# Altium footprint library UpDuino Camera Adaptor_V2.01.PcbLib: 21 footprints (part 2 of 2)
Each footprint in its own frame and in the unit in brackets; x right, y up, seen from the top. Pads: shape width x height; smd on the part's side, far side on the other; paste and mask are expansions set on the pad; w line width, h text height; cw(c..) or ccw(c..) is an arc to the next point about the centre after c.
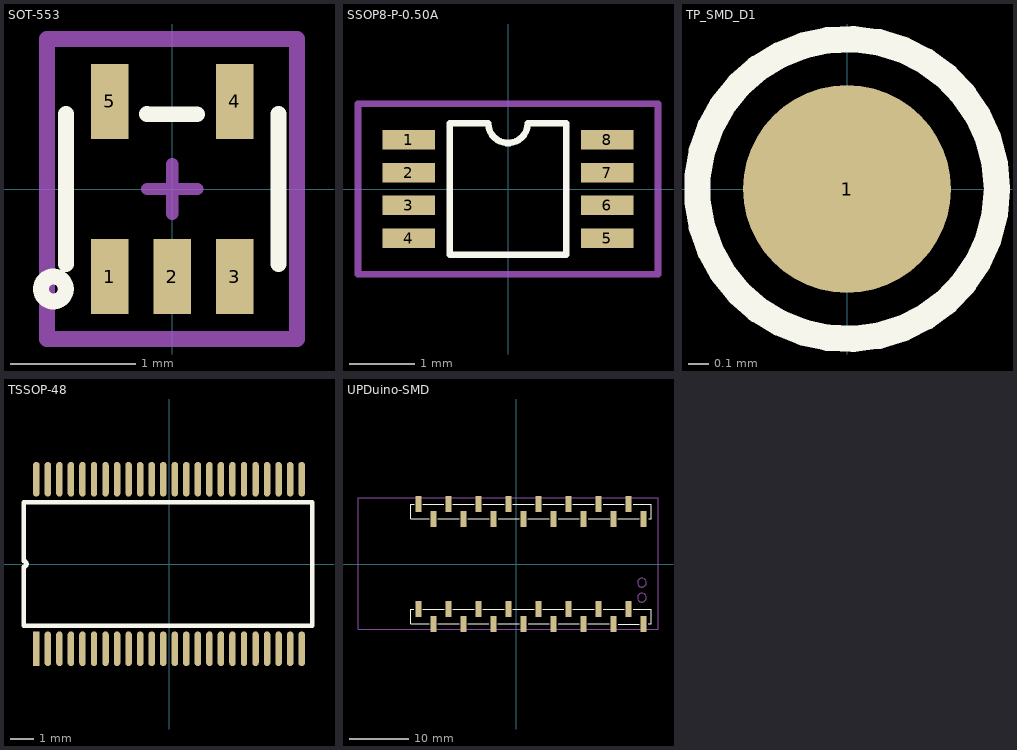
[diagram p1: the footprints below, top view; thin cyan lines are the x and y axes]

## SOT-553 [mm]
height 0.33
pads (5):
  rect 0.3x0.6 smd: 1(-0.5,-0.7) 2(0,-0.7) 3(0.5,-0.7) 4(0.5,0.7) 5(-0.5,0.7)
Top Overlay:
  circle w0.127: c-0.95,-0.8 r0.1
  lines w0.127: -0.85,-0.6 -0.85,0.6 ; -0.2,0.6 0.2,0.598 ; 0.85,-0.6 0.85,0.6
Mechanical 3:
  lines w0.1: -0.2,0 0.2,0 ; 0,-0.2 0,0.2
Mechanical 5:
  lines w0.127: -1,-1.2 1,-1.2 1,1.2 -1,1.2 -1,-1.2

## SSOP8-P-0.50A [mm]
height 2.2
pads (8):
  rect 0.8x0.3 smd: 1(-1.51,0.75) 2(-1.51,0.25) 3(-1.51,-0.25) 4(-1.51,-0.75) 5(1.51,-0.75) 6(1.51,-0.25) 7(1.51,0.25) 8(1.51,0.75)
Top Overlay:
  lines w0.1: -0.889,-1 -0.889,1 -0.3,1 ccw(c0,1) 0.3,1 0.889,1 0.889,-1 -0.889,-1
Mechanical 16:
  lines w0.1: -2.286,-1.3 2.286,-1.3 2.286,1.3 -2.286,1.3 -2.286,-1.3
  text ".Designator" at -1.01,-0.415 h0.8
3D body "User Library-VSSOP8-3.STEP": height 0.9, standoff 0, extent -1.55,-1 1.55,1

## TP_SMD_D1 [mm] "Test Point_D1MM"
pads (1):
  round 1 smd: 1(0,0)
Top Overlay:
  circle w0.127: c0,0 r0.721

## TSSOP-48 [mm]
height 0.33
pads (48):
  rect 0.28x1.5 smd: 1(-5.75,-3.675)
  oval 0.28x1.5 smd: 2(-5.25,-3.675) 3(-4.75,-3.675) 4(-4.25,-3.675) 5(-3.75,-3.675) 6(-3.25,-3.675) 7(-2.75,-3.675) 8(-2.25,-3.675) 9(-1.75,-3.675) 10(-1.25,-3.675) 11(-0.75,-3.675) 12(-0.25,-3.675) 13(0.25,-3.675) 14(0.75,-3.675) 15(1.25,-3.675) 16(1.75,-3.675) 17(2.25,-3.675) 18(2.75,-3.675) 19(3.25,-3.675) 20(3.75,-3.675) 21(4.25,-3.675) 22(4.75,-3.675) 23(5.25,-3.675) 24(5.75,-3.675) 25(5.75,3.675) 26(5.25,3.675) 27(4.75,3.675) 28(4.25,3.675) 29(3.75,3.675) 30(3.25,3.675) 31(2.75,3.675) 32(2.25,3.675) 33(1.75,3.675) 34(1.25,3.675) 35(0.75,3.675) 36(0.25,3.675) 37(-0.25,3.675) 38(-0.75,3.675) 39(-1.25,3.675) 40(-1.75,3.675) 41(-2.25,3.675) 42(-2.75,3.675) 43(-3.25,3.675) 44(-3.75,3.675) 45(-4.25,3.675) 46(-4.75,3.675) 47(-5.25,3.675) 48(-5.75,3.675)
Top Overlay:
  lines w0.2: -6.3,-2.675 -6.3,-0.125 ccw(c-6.3,0) -6.3,0.125 -6.3,2.675 6.2,2.675 6.2,-2.675 -6.3,-2.675
3D body "TSSOP-48.step": height 1.1, standoff 0, extent -6.25,-4.05 6.25,4.05

## UPDuino-SMD [mm]
pads (32):
  rect 1.02x2.7 smd: 1(-16.51,10.14) 2(-13.97,7.64) 3(-11.43,10.14) 4(-8.89,7.64) 5(-6.35,10.14) 6(-3.81,7.64) 7(-1.27,10.14) 8(1.27,7.64) 9(3.81,10.14) 10(6.35,7.64) 11(8.89,10.14) 12(11.43,7.64) 13(13.97,10.14) 14(16.51,7.64) 15(19.05,10.14) 16(21.59,7.64) 17(21.59,-10.14) 18(19.05,-7.64) 19(16.51,-10.14) 20(13.97,-7.64) 21(11.43,-10.14) 22(8.89,-7.64) 23(6.35,-10.14) 24(3.81,-7.64) 25(1.27,-10.14) 26(-1.27,-7.64) 27(-3.81,-10.14) 28(-6.35,-7.64) 29(-8.89,-10.14) 30(-11.43,-7.64) 31(-13.97,-10.14) 32(-16.51,-7.64)
Top Overlay:
  lines w0.127: -17.27,-7.64 -17.78,-7.64 -17.78,-10.14 -14.67,-10.14 ; -17.24,10.14 -17.78,10.14 -17.78,7.64 -14.69,7.64 ; -15.79,10.14 -12.19,10.14 ; -15.77,-7.64 -12.17,-7.64 ; -13.22,-10.14 -9.62,-10.14 ; -13.19,7.64 -9.59,7.64 ; -10.69,10.14 -7.09,10.14 ; -10.67,-7.64 -7.07,-7.64 ; -8.14,7.64 -4.54,7.64 ; -8.12,-10.14 -4.57,-10.14 ; -5.62,-7.64 -2.02,-7.64 ; -5.59,10.14 -1.99,10.14 ; -3.07,-10.14 0.53,-10.14 ; -3.04,7.64 0.51,7.64 ; -0.54,10.14 3.06,10.14 ; -0.52,-7.64 3.08,-7.64 ; 2.01,7.64 5.61,7.64 ; 2.03,-10.14 5.63,-10.14 ; 4.505,-7.64 8.105,-7.64 ; 4.56,10.14 8.16,10.14 ; 7.11,7.64 10.71,7.64 ; 7.13,-10.14 10.73,-10.14 ; 9.585,10.14 13.185,10.14 ; 9.63,-7.64 13.23,-7.64 ; 12.13,-10.14 15.73,-10.14 ; 12.21,7.64 15.81,7.64 ; 14.71,10.14 18.31,10.14 ; 14.732,-7.62 18.332,-7.62 ; 17.21,7.64 20.81,7.64 ; 17.272,-10.16 20.872,-10.16 ; 19.812,-7.64 22.86,-7.64 22.86,-10.14 22.352,-10.14 ; 19.835,10.14 22.86,10.14 22.86,7.64 22.46,7.64
Mechanical 5:
  lines w0.127: -26.71,-11.06 -26.71,11.159 24.003,11.159 24.003,-11.06 -26.71,-11.06
Mechanical 13:
  circle w0.127: c21.29,-3.15 r0.75
  circle w0.127: c21.29,-5.69 r0.75
3D body "upduino_v2.1_release.step": height -5.44, standoff -8.75, extent -26.677,-11.12 23.99,11.1
3D body "961118-6804-XX.stp": height 10.8, standoff -1.8, extent -22.86,-10.14 22.86,-7.64
3D body "961116-6804-XX.stp": height 10.8, standoff -1.8, extent -17.78,7.64 22.86,10.14